# EAGLE library part MCP4023T-202E/CH (library untitled)
Digital POT
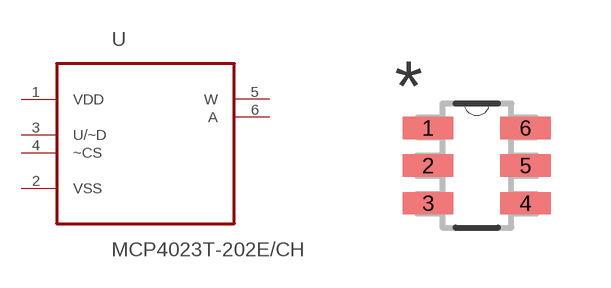
[diagram p0: symbol with the pads of SOT95P280X145-6N; footprint SOT95P280X145-6N]

Designator prefix -

## MCP4023T-202E/CH (MPN: MCP4023T-202E/CH; OC_FARNELL: 1834945; OC_NEWARK: 84R6261; PACKAGE: SOT-6; SUPPLIER: Microchip)  [SOT95P280X145-6N]
1  VDD  pwr
2  VSS  pwr
3  U/~D  in
4  ~CS  in
5  W  pas
6  A  pas

## Footprint SOT95P280X145-6N (pad centres in mm)
smd 1.27 x 0.559: 1 -1.219,0.94; 2 -1.219,0; 3 -1.219,-0.94; 4 1.219,-0.94; 5 1.219,0; 6 1.219,0.94